# Altium footprint library 分立器件.PcbLib: 102 footprints (part 5 of 7)
Each footprint in its own frame and in the unit in brackets; x right, y up, seen from the top. Pads: shape width x height; smd on the part's side, far side on the other; paste and mask are expansions set on the pad; w line width, h text height; cw(c..) or ccw(c..) is an arc to the next point about the centre after c.
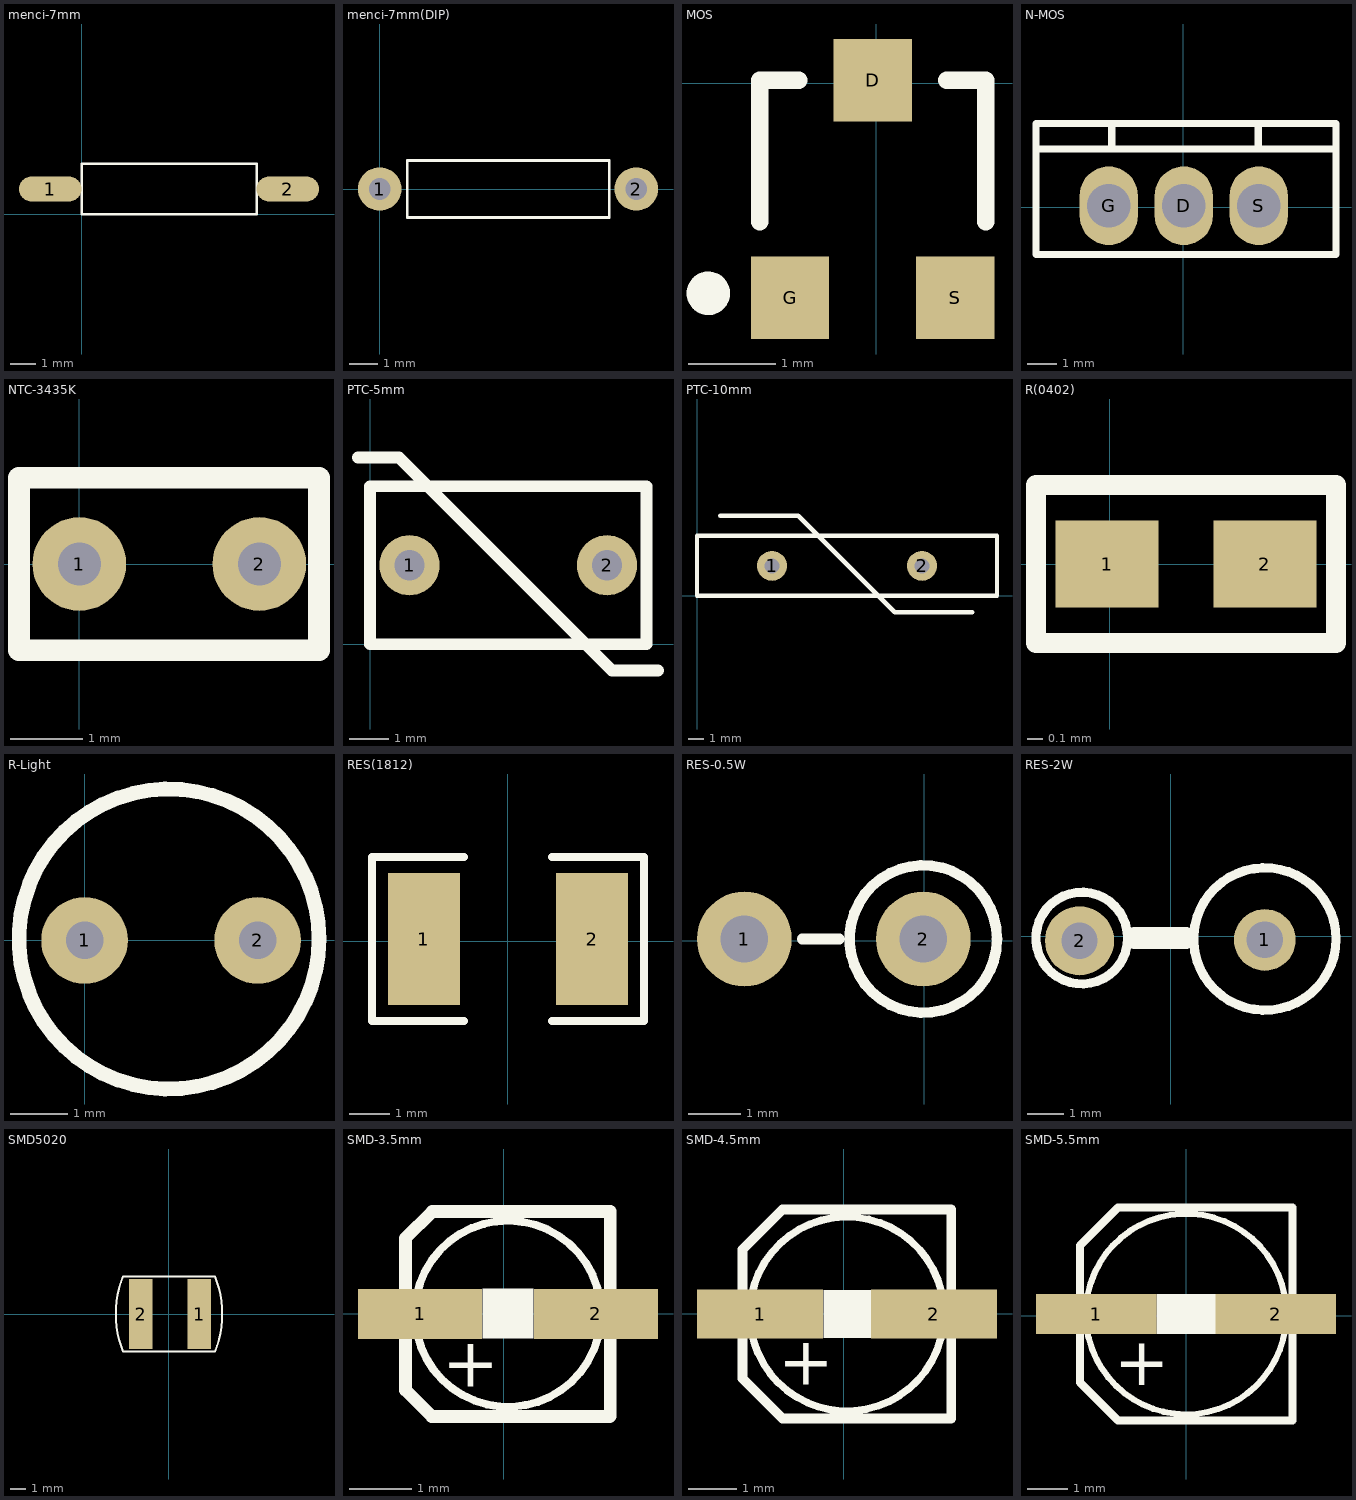
[diagram p4: the footprints below, top view; thin cyan lines are the x and y axes]

## menci-7mm [mm]
pads (2):
  oval 2.5x1 smd: 1(-1.25,1) 2(8.25,1)
Top Overlay:
  lines w0.1: 0,0 7,0 7,2 0,2 0,0

## menci-7mm(DIP) [mil]
pads (2):
  round 60 hole 30: 1(0,0) 2(354.33,0)
Top Overlay:
  lines w3.94: 38,-39.37 38,39.37 317,39.37 317,-39.37 38,-39.37

## MOS [mm]
pads (3):
  rect 0.9x0.95 smd: D(-0.041,0.036) G(-0.991,-2.464) S(0.909,-2.464)
Top Overlay:
  circle w0.25: c-1.93,-2.413 r0.125
  lines w0.2: -1.341,-1.589 -1.341,0.036 -0.891,0.036 ; 0.809,0.036 1.259,0.036 1.259,-1.589
3D body: height 1.2, standoff 0, extent -1.465,-2.69 1.435,0.11

## N-MOS [mm]
pads (3):
  oval 2x2.7 hole 1.5: D(0.016,0.051) G(-2.559,0.051) S(2.591,0.051)
Top Overlay:
  lines w0.254: -5.009,2.001 5.141,2.001 ; -2.459,2.126 -2.459,2.826 ; 2.566,2.076 2.566,2.801 ; 5.241,2.101 5.241,2.876 -5.059,2.876 -5.059,-1.624 5.241,-1.624 5.241,2.751

## NTC-3435K [mm]
pads (2):
  round 1.3 hole 0.6: 1(0,0) 2(2.5,0)
Top Overlay:
  lines w0.3: -0.838,-1.2 3.327,-1.2 3.327,1.2 -0.838,1.2 -0.838,-1.2

## PTC-5mm [mil]
pads (2):
  round 60 hole 30: 1(39.37,78.74) 2(236.22,78.74)
Top Overlay:
  lines w11.81: -12,186 29,186 241,-26 287,-26 ; 275.59,156.59 275.59,0 0,0 0,157.48 275.59,157.48

## PTC-10mm [mm]
pads (2):
  round 2 hole 1: 1(5,2) 2(15,2)
Top Overlay:
  lines w0.3: 1.549,5.334 6.756,5.334 13.183,-1.092 18.339,-1.092 ; 20,3.973 20,0 0,0 0,4 20,4

## R(0402) [mm]
pads (2):
  rect 0.65x0.55 smd: 1(-0.016,0.002) 2(0.984,0.002)
Top Overlay:
  lines w0.127: -0.466,-0.498 1.434,-0.498 1.434,0.502 0.179,0.502 -0.466,0.502 -0.466,-0.498

## R-Light [mm]
pads (2):
  round 1.5 hole 0.65: 1(0,0) 2(3,0)
Top Overlay:
  circle w0.254: c1.464,0.025 r2.6

## RES(1812) [mm]
pads (2):
  rect 1.8x3.3 smd: 1(-2.099,0.052) 2(2.101,0.052)
Top Overlay:
  lines w0.203: -1.099,-1.998 -3.399,-1.998 -3.399,2.102 -1.099,2.102 ; 1.101,-1.998 3.401,-1.998 3.401,2.102 1.101,2.102

## RES-0.5W [mm]
pads (2):
  round 1.8 hole 0.9: 1(-3.414,0.036) 2(-0.014,0.036)
Top Overlay:
  circle w0.2: c-0.014,0.036 r1.4
  lines w0.2: -2.314,0.036 -1.614,0.036

## RES-2W [mm]
pads (2):
  round 1.7 hole 1: 1(2.591,-0.102)
  round 1.9 hole 1: 2(-2.509,-0.127)
Top Overlay:
  circle w0.254: c-2.446,-0.052 r1.262
  circle w0.254: c2.591,-0.077 r1.96
  lines w0.6: -0.984,-0.052 0.416,-0.052

## SMD5020 [mm]
pads (2):
  rect 1.5x4.5 smd: 1(1.947,0) 2(-1.803,0)
Top Overlay:
  lines w0.127: -2.949,2.408 ccw(c3.102,0) -2.944,-2.418 ; -2.946,-2.413 2.95,-2.413 ; -2.946,2.413 2.95,2.413 ; 2.947,2.418 cw(c-3.099,0) 2.952,-2.408

## SMD-3.5mm [mm]
pads (2):
  rect 2x0.8 smd: 1(-1.349,-0.001) 2(1.486,-0.001)
Top Overlay:
  rectangle: -0.346,-0.4 0.483,0.406
  lines w0.127: 1.428,0.635 ccw(c0.068,0.002) 1.428,0.633
  lines w0.203: -1.159,1.645 -1.583,1.221 -1.583,-1.23 -1.159,-1.654 1.71,-1.654 ; -1.154,1.65 1.717,1.65 1.717,-1.648
  text "+" at -0.988,-1.175 h0.8

## SMD-4.5mm [mm]
pads (2):
  rect 2.6x1 smd: 1(-1.725,-0.003) 2(1.854,-0.003)
Top Overlay:
  rectangle: -0.423,-0.502 0.554,0.496
  lines w0.152: 1.835,0.921 ccw(c0.062,-0.003) 1.837,0.918
  lines w0.203: 2.212,2.147 2.212,-2.153 -1.264,-2.153 -2.09,-1.328 -2.09,1.322 -1.264,2.148 2.211,2.148
  text "+" at -1.355,-1.463 h1

## SMD-5.5mm [mm]
pads (2):
  rect 3x1 smd: 1(-2.249,0.042) 2(2.228,0.042)
Top Overlay:
  rectangle: -0.749,-0.458 0.732,0.542
  lines w0.152: 2.164,1.281 ccw(c-0.008,0.042) 2.166,1.277
  lines w0.203: -2.032,-2.288 -2.656,-1.664 ; 2.641,2.698 -1.707,2.698 -1.708,2.697 -2.656,1.749 -2.656,-1.664 ; 2.643,2.696 2.643,-2.612 -1.707,-2.612 ; -2.656,-1.664 -1.707,-2.612 ; -1.707,-2.612 -1.707,-2.612
  text "+" at -1.804,-1.735 h1.2